# Altium footprint library IDC.PcbLib: 30 footprints (part 2 of 2)
Each footprint in its own frame and in the unit in brackets; x right, y up, seen from the top. Pads: shape width x height; smd on the part's side, far side on the other; paste and mask are expansions set on the pad; w line width, h text height; cw(c..) or ccw(c..) is an arc to the next point about the centre after c.
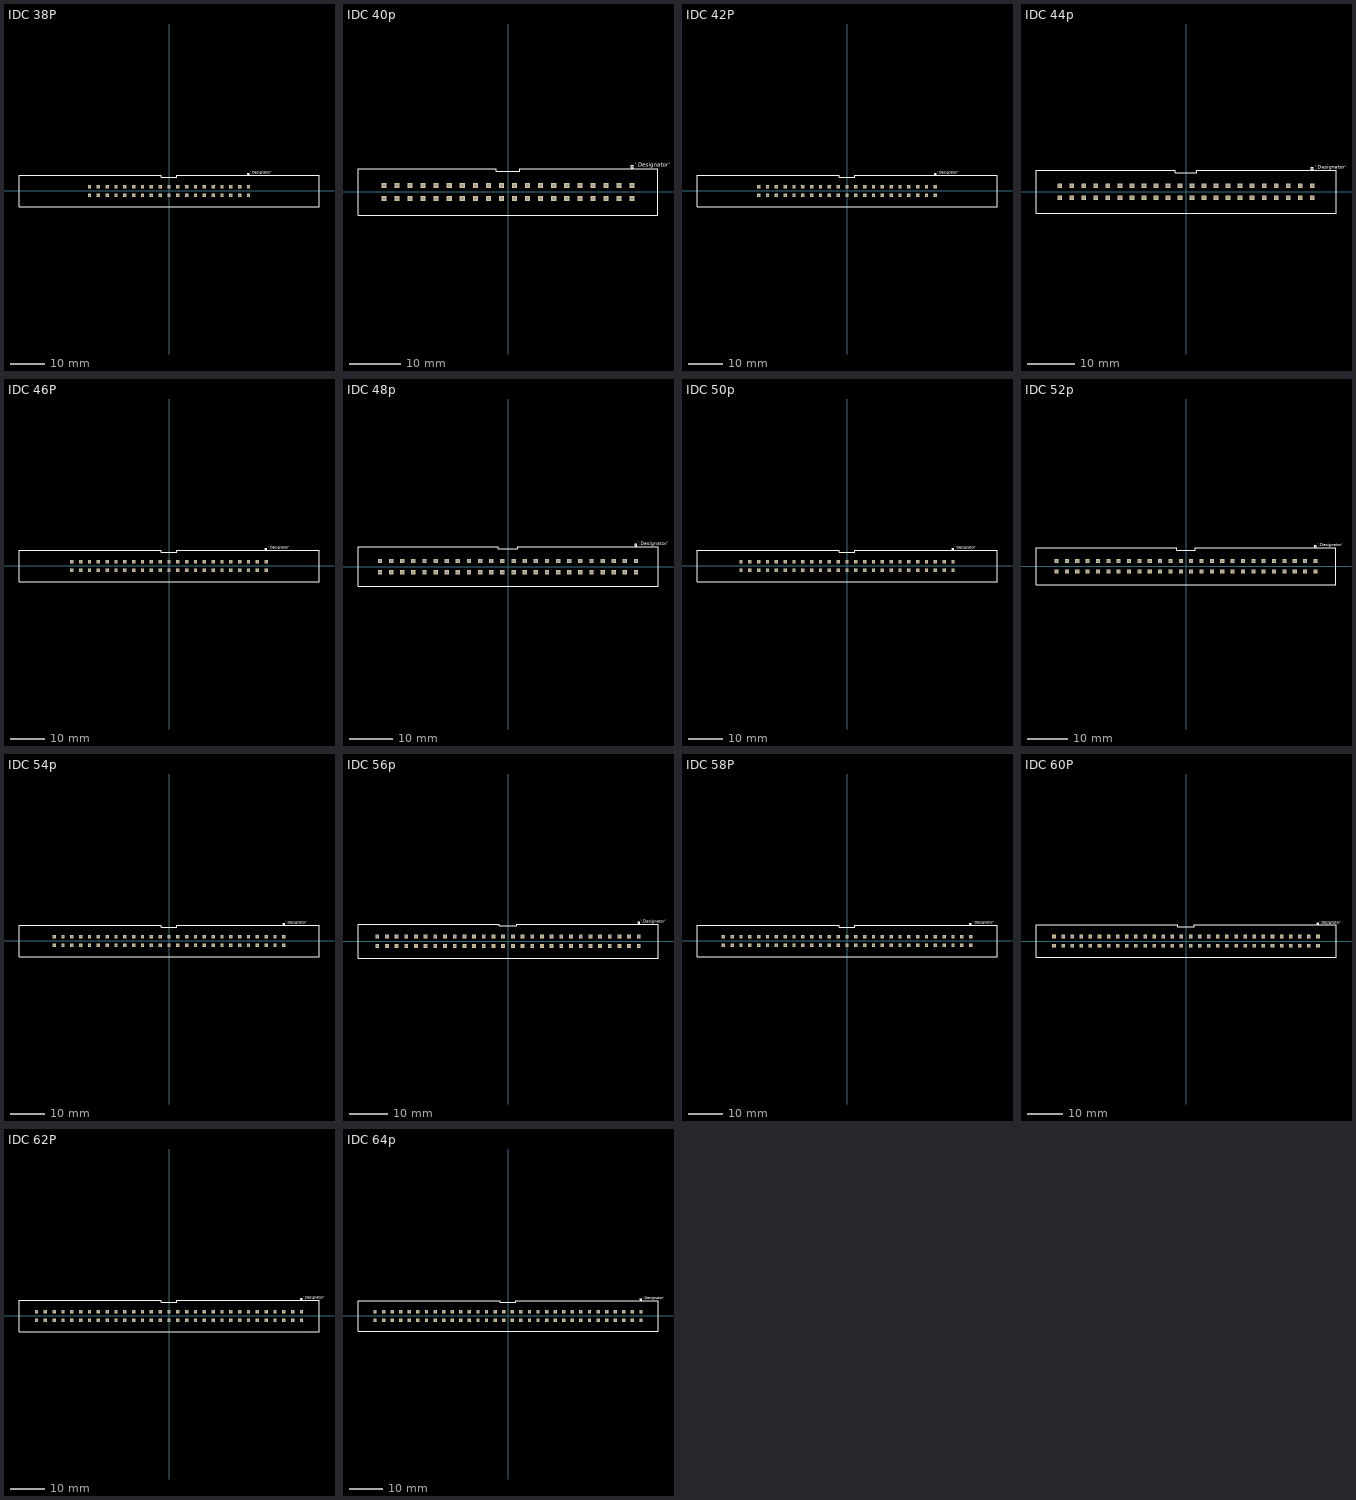
[diagram p1: the footprints below, top view; thin cyan lines are the x and y axes]

## IDC 38P [mm]
pads (38):
  rect 1x1 hole 0.6: 1(22.86,1.27) 2(22.86,-1.27) 3(20.32,1.27) 4(20.32,-1.27) 5(17.78,1.27) 6(17.78,-1.27) 7(15.24,1.27) 8(15.24,-1.27) 9(12.7,1.27) 10(12.7,-1.27) 11(10.16,1.27) 12(10.16,-1.27) 13(7.62,1.27) 14(7.62,-1.27) 15(5.08,1.27) 16(5.08,-1.27) 17(2.54,1.27) 18(2.54,-1.27) 19(0,1.27) 20(0,-1.27) 21(-2.54,1.27) 22(-2.54,-1.27) 23(-5.08,1.27) 24(-5.08,-1.27) 25(-7.62,1.27) 26(-7.62,-1.27) 27(-10.16,1.27) 28(-10.16,-1.27) 29(-12.7,1.27) 30(-12.7,-1.27) 31(-15.24,1.27) 32(-15.24,-1.27) 33(-17.78,1.27) 34(-17.78,-1.27) 35(-20.32,1.27) 36(-20.32,-1.27) 37(-22.86,1.27) 38(-22.86,-1.27)
Top Overlay:
  lines w0.15: -43.13,-4.5 43.13,-4.5 43.13,4.5 2.25,4.5 2.25,4 -2.25,4 -2.25,4.5 -43.13,4.5 -43.13,-4.5 ; 22.66,4.75 22.66,5.15 23.06,5.15 23.06,4.75 22.66,4.75
  text "'.Designator'" at 23.41,4.9 h0.75

## IDC 40p [mm]
pads (40):
  rect 1x1 hole 0.6: 1(24.13,1.27) 2(24.13,-1.27) 3(21.59,1.27) 4(21.59,-1.27) 5(19.05,1.27) 6(8.89,-1.27) 6(19.05,-1.27) 7(16.51,1.27) 8(16.51,-1.27) 9(13.97,1.27) 10(13.97,-1.27) 11(11.43,1.27) 12(11.43,-1.27) 13(8.89,1.27) 15(6.35,1.27) 16(6.35,-1.27) 17(3.81,1.27) 18(3.81,-1.27) 19(1.27,1.27) 20(1.27,-1.27) 21(-1.27,1.27) 22(-1.27,-1.27) 23(-3.81,1.27) 24(-3.81,-1.27) 25(-6.35,1.27) 26(-6.35,-1.27) 27(-8.89,1.27) 28(-8.89,-1.27) 29(-11.43,1.27) 30(-11.43,-1.27) 31(-13.97,1.27) 32(-13.97,-1.27) 33(-16.51,1.27) 34(-16.51,-1.27) 35(-19.05,1.27) 36(-19.05,-1.27) 37(-21.59,1.27) 38(-21.59,-1.27) 39(-24.13,1.27) 40(-24.13,-1.27)
Top Overlay:
  lines w0.15: -29.16,-4.5 -29.16,4.5 -2.25,4.5 -2.25,4 2.25,4 2.25,4.5 29.16,4.5 29.16,-4.5 -29.16,-4.5 ; 23.93,4.75 24.33,4.75 24.33,5.15 23.93,5.15 23.93,4.75
  text "'.Designator'" at 24.68,4.9 h0.75

## IDC 42P [mm]
pads (42):
  rect 1x1 hole 0.6: 1(25.4,1.27) 2(25.4,-1.27) 3(22.86,1.27) 4(22.86,-1.27) 5(20.32,1.27) 6(20.32,-1.27) 7(17.78,1.27) 8(17.78,-1.27) 9(15.24,1.27) 10(15.24,-1.27) 11(12.7,1.27) 12(12.7,-1.27) 13(10.16,1.27) 14(10.16,-1.27) 15(7.62,1.27) 16(7.62,-1.27) 17(5.08,1.27) 18(5.08,-1.27) 19(2.54,1.27) 20(2.54,-1.27) 21(0,1.27) 22(0,-1.27) 23(-2.54,1.27) 24(-2.54,-1.27) 25(-5.08,1.27) 26(-5.08,-1.27) 27(-7.62,1.27) 28(-7.62,-1.27) 29(-10.16,1.27) 30(-10.16,-1.27) 31(-12.7,1.27) 32(-12.7,-1.27) 33(-15.24,1.27) 34(-15.24,-1.27) 35(-17.78,1.27) 36(-17.78,-1.27) 37(-20.32,1.27) 38(-20.32,-1.27) 39(-22.86,1.27) 40(-22.86,-1.27) 41(-25.4,1.27) 42(-25.4,-1.27)
Top Overlay:
  lines w0.15: -43.13,-4.5 43.13,-4.5 43.13,4.5 2.25,4.5 2.25,4 -2.25,4 -2.25,4.5 -43.13,4.5 -43.13,-4.5 ; 25.2,4.75 25.6,4.75 25.6,5.15 25.2,5.15 25.2,4.75
  text "'.Designator'" at 25.95,4.9 h0.75

## IDC 44p [mm]
pads (44):
  rect 1x1 hole 0.6: 1(26.67,1.27) 2(26.67,-1.27) 3(24.13,1.27) 4(24.13,-1.27) 5(21.59,1.27) 6(21.59,-1.27) 7(19.05,1.27) 8(19.05,-1.27) 9(16.51,1.27) 10(16.51,-1.27) 11(13.97,1.27) 12(13.97,-1.27) 13(11.43,1.27) 14(11.43,-1.27) 15(8.89,1.27) 16(8.89,-1.27) 17(6.35,1.27) 18(6.35,-1.27) 19(3.81,1.27) 20(3.81,-1.27) 21(1.27,1.27) 22(1.27,-1.27) 23(-1.27,1.27) 24(-1.27,-1.27) 25(-3.81,1.27) 26(-3.81,-1.27) 27(-6.35,1.27) 28(-6.35,-1.27) 29(-8.89,1.27) 30(-8.89,-1.27) 31(-11.43,1.27) 32(-11.43,-1.27) 33(-13.97,1.27) 34(-13.97,-1.27) 35(-16.51,1.27) 36(-16.51,-1.27) 37(-19.05,1.27) 38(-19.05,-1.27) 39(-21.59,1.27) 40(-21.59,-1.27) 41(-24.13,1.27) 42(-24.13,-1.27) 43(-26.67,1.27) 44(-26.67,-1.27)
Top Overlay:
  lines w0.15: -31.7,-4.5 31.7,-4.5 31.7,4.5 2.25,4.5 2.25,4 -2.25,4 -2.25,4.5 -31.7,4.5 -31.7,-4.5 ; 26.47,4.75 26.47,5.15 26.87,5.15 26.87,4.75 26.47,4.75
  text "'.Designator'" at 27.22,4.9 h0.75

## IDC 46P [mm]
pads (46):
  rect 1x1 hole 0.6: 1(27.94,1.27) 2(27.94,-1.27) 3(25.4,1.27) 4(25.4,-1.27) 5(22.86,1.27) 6(22.86,-1.27) 7(20.32,1.27) 8(20.32,-1.27) 9(17.78,1.27) 10(17.78,-1.27) 11(15.24,1.27) 12(15.24,-1.27) 13(12.7,1.27) 14(12.7,-1.27) 15(10.16,1.27) 16(10.16,-1.27) 17(7.62,1.27) 18(7.62,-1.27) 19(5.08,1.27) 20(5.08,-1.27) 21(2.54,1.27) 22(2.54,-1.27) 23(0,1.27) 24(0,-1.27) 25(-2.54,1.27) 26(-2.54,-1.27) 27(-5.08,1.27) 28(-5.08,-1.27) 29(-7.62,1.27) 30(-7.62,-1.27) 31(-10.16,1.27) 32(-10.16,-1.27) 33(-12.7,1.27) 34(-12.7,-1.27) 35(-15.24,1.27) 36(-15.24,-1.27) 37(-17.78,1.27) 38(-17.78,-1.27) 39(-20.32,1.27) 40(-20.32,-1.27) 41(-22.86,1.27) 42(-22.86,-1.27) 43(-25.4,1.27) 44(-25.4,-1.27) 45(-27.94,1.27) 46(-27.94,-1.27)
Top Overlay:
  lines w0.15: -43.13,-4.5 -43.13,4.5 -2.25,4.5 -2.25,4 2.25,4 2.25,4.5 43.13,4.5 43.13,-4.5 -43.13,-4.5 ; 27.74,4.75 27.74,5.15 28.14,5.15 28.14,4.75 27.74,4.75
  text "'.Designator'" at 28.49,4.9 h0.75

## IDC 48p [mm]
pads (48):
  rect 1x1 hole 0.6: 1(29.21,1.27) 2(29.21,-1.27) 3(26.67,1.27) 4(26.67,-1.27) 5(24.13,1.27) 6(24.13,-1.27) 7(21.59,1.27) 8(21.59,-1.27) 9(19.05,1.27) 10(19.05,-1.27) 11(16.51,1.27) 12(16.51,-1.27) 13(13.97,1.27) 14(13.97,-1.27) 15(11.43,1.27) 16(11.43,-1.27) 17(8.89,1.27) 18(8.89,-1.27) 19(6.35,1.27) 20(6.35,-1.27) 21(3.81,1.27) 22(3.81,-1.27) 23(1.27,1.27) 24(1.27,-1.27) 25(-1.27,1.27) 26(-1.27,-1.27) 27(-3.81,1.27) 28(-3.81,-1.27) 29(-6.35,1.27) 30(-6.35,-1.27) 31(-8.89,1.27) 32(-8.89,-1.27) 33(-11.43,1.27) 34(-11.43,-1.27) 35(-13.97,1.27) 36(-13.97,-1.27) 37(-16.51,1.27) 38(-16.51,-1.27) 39(-19.05,1.27) 40(-19.05,-1.27) 41(-21.59,1.27) 42(-21.59,-1.27) 43(-24.13,1.27) 44(-24.13,-1.27) 45(-26.67,1.27) 46(-26.67,-1.27) 47(-29.21,1.27) 48(-29.21,-1.27)
Top Overlay:
  lines w0.15: -34.24,-4.5 34.24,-4.5 34.24,4.5 2.25,4.5 2.25,4 -2.25,4 -2.25,4.5 -34.24,4.5 -34.24,-4.5 ; 29.01,4.75 29.01,5.15 29.41,5.15 29.41,4.75 29.01,4.75
  text "'.Designator'" at 29.76,4.9 h0.75

## IDC 50p [mm]
pads (50):
  rect 1x1 hole 0.6: 1(30.48,1.27) 2(30.48,-1.27) 3(27.94,1.27) 4(27.94,-1.27) 5(25.4,1.27) 6(25.4,-1.27) 7(22.86,1.27) 8(22.86,-1.27) 9(20.32,1.27) 10(20.32,-1.27) 11(17.78,1.27) 12(17.78,-1.27) 13(15.24,1.27) 14(15.24,-1.27) 15(12.7,1.27) 16(12.7,-1.27) 17(10.16,1.27) 18(10.16,-1.27) 19(7.62,1.27) 20(7.62,-1.27) 21(5.08,1.27) 22(5.08,-1.27) 23(2.54,1.27) 24(2.54,-1.27) 25(0,1.27) 26(0,-1.27) 27(-2.54,1.27) 28(-2.54,-1.27) 29(-5.08,1.27) 30(-5.08,-1.27) 31(-7.62,1.27) 32(-7.62,-1.27) 33(-10.16,1.27) 34(-10.16,-1.27) 35(-12.7,1.27) 36(-12.7,-1.27) 37(-15.24,1.27) 38(-15.24,-1.27) 39(-17.78,1.27) 40(-17.78,-1.27) 41(-20.32,1.27) 42(-20.32,-1.27) 43(-22.86,1.27) 44(-22.86,-1.27) 45(-25.4,1.27) 46(-25.4,-1.27) 47(-27.94,1.27) 48(-27.94,-1.27) 49(-30.48,1.27) 50(-30.48,-1.27)
Top Overlay:
  lines w0.15: -43.13,-4.5 -43.13,4.5 -2.25,4.5 -2.25,4 2.25,4 2.25,4.5 43.13,4.5 43.13,-4.5 -43.13,-4.5 ; 30.28,4.75 30.28,5.15 30.68,5.15 30.68,4.75 30.28,4.75
  text "'.Designator'" at 31.03,4.9 h0.75

## IDC 52p [mm]
pads (52):
  rect 1x1 hole 0.6: 1(31.75,1.27) 2(31.75,-1.27) 3(29.21,1.27) 4(29.21,-1.27) 5(26.67,1.27) 6(26.67,-1.27) 7(24.13,1.27) 8(24.13,-1.27) 9(21.59,1.27) 10(21.59,-1.27) 11(19.05,1.27) 12(19.05,-1.27) 13(16.51,1.27) 14(16.51,-1.27) 15(13.97,1.27) 16(13.97,-1.27) 17(11.43,1.27) 18(11.43,-1.27) 19(8.89,1.27) 20(8.89,-1.27) 21(6.35,1.27) 22(6.35,-1.27) 23(3.81,1.27) 24(3.81,-1.27) 25(1.27,1.27) 26(1.27,-1.27) 27(-1.27,1.27) 28(-1.27,-1.27) 29(-3.81,1.27) 30(-3.81,-1.27) 31(-6.35,1.27) 32(-6.35,-1.27) 33(-8.89,1.27) 34(-8.89,-1.27) 35(-11.43,1.27) 36(-11.43,-1.27) 37(-13.97,1.27) 38(-13.97,-1.27) 39(-16.51,1.27) 40(-16.51,-1.27) 41(-19.05,1.27) 42(-19.05,-1.27) 43(-21.59,1.27) 44(-21.59,-1.27) 45(-24.13,1.27) 46(-24.13,-1.27) 47(-26.67,1.27) 48(-26.67,-1.27) 49(-29.21,1.27) 50(-29.21,-1.27) 51(-31.75,1.27) 52(-31.75,-1.27)
Top Overlay:
  lines w0.15: -36.78,-4.5 -36.78,4.5 -2.25,4.5 -2.25,4 2.25,4 2.25,4.5 36.78,4.5 36.78,-4.5 -36.78,-4.5 ; 31.55,4.75 31.95,4.75 31.95,5.15 31.55,5.15 31.55,4.75
  text "'.Designator'" at 32.3,4.9 h0.75

## IDC 54p [mm]
pads (54):
  rect 1x1 hole 0.6: 1(33.02,1.27) 2(33.02,-1.27) 3(30.48,1.27) 4(30.48,-1.27) 5(27.94,1.27) 6(27.94,-1.27) 7(25.4,1.27) 8(25.4,-1.27) 9(22.86,1.27) 10(22.86,-1.27) 11(20.32,1.27) 12(20.32,-1.27) 13(17.78,1.27) 14(17.78,-1.27) 15(15.24,1.27) 16(15.24,-1.27) 17(12.7,1.27) 18(12.7,-1.27) 19(10.16,1.27) 20(10.16,-1.27) 21(7.62,1.27) 22(7.62,-1.27) 23(5.08,1.27) 24(5.08,-1.27) 25(2.54,1.27) 26(2.54,-1.27) 27(0,1.27) 28(0,-1.27) 29(-2.54,1.27) 30(-2.54,-1.27) 31(-5.08,1.27) 32(-5.08,-1.27) 33(-7.62,1.27) 34(-7.62,-1.27) 35(-10.16,1.27) 36(-10.16,-1.27) 37(-12.7,1.27) 38(-12.7,-1.27) 39(-15.24,1.27) 40(-15.24,-1.27) 41(-17.78,1.27) 42(-17.78,-1.27) 43(-20.32,1.27) 44(-20.32,-1.27) 45(-22.86,1.27) 46(-22.86,-1.27) 47(-25.4,1.27) 48(-25.4,-1.27) 49(-27.94,1.27) 50(-27.94,-1.27) 51(-30.48,1.27) 52(-30.48,-1.27) 53(-33.02,1.27) 54(-33.02,-1.27)
Top Overlay:
  lines w0.15: -43.13,-4.5 -43.13,4.5 -2.25,4.5 -2.25,4 2.25,4 2.25,4.5 43.13,4.5 43.13,-4.5 -43.13,-4.5 ; 32.82,4.75 32.82,5.15 33.22,5.15 33.22,4.75 32.82,4.75
  text "'.Designator'" at 33.57,4.9 h0.75

## IDC 56p [mm]
pads (56):
  rect 1x1 hole 0.6: 1(34.29,1.27) 2(34.29,-1.27) 3(31.75,1.27) 4(31.75,-1.27) 5(29.21,1.27) 6(29.21,-1.27) 7(26.67,1.27) 8(26.67,-1.27) 9(24.13,1.27) 10(24.13,-1.27) 11(21.59,1.27) 12(21.59,-1.27) 13(19.05,1.27) 14(19.05,-1.27) 15(16.51,1.27) 16(16.51,-1.27) 17(13.97,1.27) 18(13.97,-1.27) 19(11.43,1.27) 20(11.43,-1.27) 21(8.89,1.27) 22(8.89,-1.27) 23(6.35,1.27) 24(6.35,-1.27) 25(3.81,1.27) 26(3.81,-1.27) 27(1.27,1.27) 28(1.27,-1.27) 29(-1.27,1.27) 30(-1.27,-1.27) 31(-3.81,1.27) 32(-3.81,-1.27) 33(-6.35,1.27) 34(-6.35,-1.27) 35(-8.89,1.27) 36(-8.89,-1.27) 37(-11.43,1.27) 38(-11.43,-1.27) 39(-13.97,1.27) 40(-13.97,-1.27) 41(-16.51,1.27) 42(-16.51,-1.27) 43(-19.05,1.27) 44(-19.05,-1.27) 45(-21.59,1.27) 46(-21.59,-1.27) 47(-24.13,1.27) 48(-24.13,-1.27) 49(-26.67,1.27) 50(-26.67,-1.27) 51(-29.21,1.27) 52(-29.21,-1.27) 53(-31.75,1.27) 54(-31.75,-1.27) 55(-34.29,1.27) 56(-34.29,-1.27)
Top Overlay:
  lines w0.15: -39.32,-4.5 -39.32,4.5 -2.25,4.5 -2.25,4 2.25,4 2.25,4.5 39.32,4.5 39.32,-4.5 -39.32,-4.5 ; 34.09,4.75 34.49,4.75 34.49,5.15 34.09,5.15 34.09,4.75
  text "'.Designator'" at 34.84,4.9 h0.75

## IDC 58P [mm]
pads (58):
  rect 1x1 hole 0.6: 1(35.56,1.27) 2(35.56,-1.27) 3(33.02,1.27) 4(33.02,-1.27) 5(30.48,1.27) 6(30.48,-1.27) 7(27.94,1.27) 8(27.94,-1.27) 9(25.4,1.27) 10(25.4,-1.27) 11(22.86,1.27) 12(22.86,-1.27) 13(20.32,1.27) 14(20.32,-1.27) 15(17.78,1.27) 16(17.78,-1.27) 17(15.24,1.27) 18(15.24,-1.27) 19(12.7,1.27) 20(12.7,-1.27) 21(10.16,1.27) 22(10.16,-1.27) 23(7.62,1.27) 24(7.62,-1.27) 25(5.08,1.27) 26(5.08,-1.27) 27(2.54,1.27) 28(2.54,-1.27) 29(0,1.27) 30(0,-1.27) 31(-2.54,1.27) 32(-2.54,-1.27) 33(-5.08,1.27) 34(-5.08,-1.27) 35(-7.62,1.27) 36(-7.62,-1.27) 37(-10.16,1.27) 38(-10.16,-1.27) 39(-12.7,1.27) 40(-12.7,-1.27) 41(-15.24,1.27) 42(-15.24,-1.27) 43(-17.78,1.27) 44(-17.78,-1.27) 45(-20.32,1.27) 46(-20.32,-1.27) 47(-22.86,1.27) 48(-22.86,-1.27) 49(-25.4,1.27) 50(-25.4,-1.27) 51(-27.94,1.27) 52(-27.94,-1.27) 53(-30.48,1.27) 54(-30.48,-1.27) 55(-33.02,1.27) 56(-33.02,-1.27) 57(-35.56,1.27) 58(-35.56,-1.27)
Top Overlay:
  lines w0.15: -43.13,-4.5 -43.13,4.5 -2.25,4.5 -2.25,4 2.25,4 2.25,4.5 43.13,4.5 43.13,-4.5 -43.13,-4.5 ; 35.36,4.75 35.36,5.15 35.76,5.15 35.76,4.75 35.36,4.75
  text "'.Designator'" at 36.11,4.9 h0.75

## IDC 60P [mm]
pads (60):
  rect 1x1 hole 0.6: 1(36.83,1.27) 2(36.83,-1.27) 3(34.29,1.27) 4(34.29,-1.27) 5(31.75,1.27) 6(31.75,-1.27) 7(29.21,1.27) 8(29.21,-1.27) 9(26.67,1.27) 10(26.67,-1.27) 11(24.13,1.27) 12(24.13,-1.27) 13(21.59,1.27) 14(21.59,-1.27) 15(19.05,1.27) 16(19.05,-1.27) 17(16.51,1.27) 18(16.51,-1.27) 19(13.97,1.27) 20(13.97,-1.27) 21(11.43,1.27) 22(11.43,-1.27) 23(8.89,1.27) 24(8.89,-1.27) 25(6.35,1.27) 26(6.35,-1.27) 27(3.81,1.27) 28(3.81,-1.27) 29(1.27,1.27) 30(1.27,-1.27) 31(-1.27,1.27) 32(-1.27,-1.27) 33(-3.81,1.27) 34(-3.81,-1.27) 35(-6.35,1.27) 36(-6.35,-1.27) 37(-8.89,1.27) 38(-8.89,-1.27) 39(-11.43,1.27) 40(-11.43,-1.27) 41(-13.97,1.27) 42(-13.97,-1.27) 43(-16.51,1.27) 44(-16.51,-1.27) 45(-19.05,1.27) 46(-19.05,-1.27) 47(-21.59,1.27) 48(-21.59,-1.27) 49(-24.13,1.27) 50(-24.13,-1.27) 51(-26.67,1.27) 52(-26.67,-1.27) 53(-29.21,1.27) 54(-29.21,-1.27) 55(-31.75,1.27) 56(-31.75,-1.27) 57(-34.29,1.27) 58(-34.29,-1.27) 59(-36.83,1.27) 60(-36.83,-1.27)
Top Overlay:
  lines w0.15: -41.86,-4.5 41.86,-4.5 41.86,4.5 2.25,4.5 2.25,4 -2.25,4 -2.25,4.5 -41.86,4.5 -41.86,-4.5 ; 36.63,4.75 37.03,4.75 37.03,5.15 36.63,5.15 36.63,4.75
  text "'.Designator'" at 37.38,4.9 h0.75

## IDC 62P [mm]
pads (62):
  rect 1x1 hole 0.6: 1(38.1,1.27) 2(38.1,-1.27) 3(35.56,1.27) 4(35.56,-1.27) 5(33.02,1.27) 6(33.02,-1.27) 7(30.48,1.27) 8(30.48,-1.27) 9(27.94,1.27) 10(27.94,-1.27) 11(25.4,1.27) 12(25.4,-1.27) 13(22.86,1.27) 14(22.86,-1.27) 15(20.32,1.27) 16(20.32,-1.27) 17(17.78,1.27) 18(17.78,-1.27) 19(15.24,1.27) 20(15.24,-1.27) 21(12.7,1.27) 22(12.7,-1.27) 23(10.16,1.27) 24(10.16,-1.27) 25(7.62,1.27) 26(7.62,-1.27) 27(5.08,1.27) 28(5.08,-1.27) 29(2.54,1.27) 30(2.54,-1.27) 31(0,1.27) 32(0,-1.27) 33(-2.54,1.27) 34(-2.54,-1.27) 35(-5.08,1.27) 36(-5.08,-1.27) 37(-7.62,1.27) 38(-7.62,-1.27) 39(-10.16,1.27) 40(-10.16,-1.27) 41(-12.7,1.27) 42(-12.7,-1.27) 43(-15.24,1.27) 44(-15.24,-1.27) 45(-17.78,1.27) 46(-17.78,-1.27) 47(-20.32,1.27) 48(-20.32,-1.27) 49(-22.86,1.27) 50(-22.86,-1.27) 51(-25.4,1.27) 52(-25.4,-1.27) 53(-27.94,1.27) 54(-27.94,-1.27) 55(-30.48,1.27) 56(-30.48,-1.27) 57(-33.02,1.27) 58(-33.02,-1.27) 59(-35.56,1.27) 60(-35.56,-1.27) 61(-38.1,1.27) 62(-38.1,-1.27)
Top Overlay:
  lines w0.15: -43.13,-4.5 -43.13,4.5 -2.25,4.5 -2.25,4 2.25,4 2.25,4.5 43.13,4.5 43.13,-4.5 -43.13,-4.5 ; 37.9,4.75 37.9,5.15 38.3,5.15 38.3,4.75 37.9,4.75
  text "'.Designator'" at 38.65,4.9 h0.75

## IDC 64p [mm]
pads (64):
  rect 1x1 hole 0.6: 1(39.37,1.27) 2(39.37,-1.27) 3(36.83,1.27) 4(36.83,-1.27) 5(34.29,1.27) 6(34.29,-1.27) 7(31.75,1.27) 8(31.75,-1.27) 9(29.21,1.27) 10(29.21,-1.27) 11(26.67,1.27) 12(26.67,-1.27) 13(24.13,1.27) 14(24.13,-1.27) 15(21.59,1.27) 16(21.59,-1.27) 17(19.05,1.27) 18(19.05,-1.27) 19(16.51,1.27) 20(16.51,-1.27) 21(13.97,1.27) 22(13.97,-1.27) 23(11.43,1.27) 24(11.43,-1.27) 25(8.89,1.27) 26(8.89,-1.27) 27(6.35,1.27) 28(6.35,-1.27) 29(3.81,1.27) 30(3.81,-1.27) 31(1.27,1.27) 32(1.27,-1.27) 33(-1.27,1.27) 34(-1.27,-1.27) 35(-3.81,1.27) 36(-3.81,-1.27) 37(-6.35,1.27) 38(-6.35,-1.27) 39(-8.89,1.27) 40(-8.89,-1.27) 41(-11.43,1.27) 42(-11.43,-1.27) 43(-13.97,1.27) 44(-13.97,-1.27) 45(-16.51,1.27) 46(-16.51,-1.27) 47(-19.05,1.27) 48(-19.05,-1.27) 49(-21.59,1.27) 50(-21.59,-1.27) 51(-24.13,1.27) 52(-24.13,-1.27) 53(-26.67,1.27) 54(-26.67,-1.27) 55(-29.21,1.27) 56(-29.21,-1.27) 57(-31.75,1.27) 58(-31.75,-1.27) 59(-34.29,1.27) 60(-34.29,-1.27) 61(-36.83,1.27) 62(-36.83,-1.27) 63(-39.37,1.27) 64(-39.37,-1.27)
Top Overlay:
  lines w0.15: -44.4,-4.5 -44.4,4.5 -2.25,4.5 -2.25,4 2.25,4 2.25,4.5 44.4,4.5 44.4,-4.5 -44.4,-4.5 ; 39.17,4.75 39.17,5.15 39.57,5.15 39.57,4.75 39.17,4.75
  text "'.Designator'" at 39.92,4.9 h0.75